# Altium integrated library 500ASSP1M6QE.IntLib: 1 symbol
Pins are listed as number, name and electrical type; pins without a type are passive.

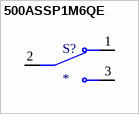
[diagram p0: symbol 500ASSP1M6QE]

## 500ASSP1M6QE
designator S?
MP: 500ASSP1M6QE; Price: None; Availability: Unavailable; Value: *; Package: None
footprint SW_500ASSP1M6QE
pins: 1 NC, 2 COM, 3 NO